# EAGLE library part CP2104 (library Public)
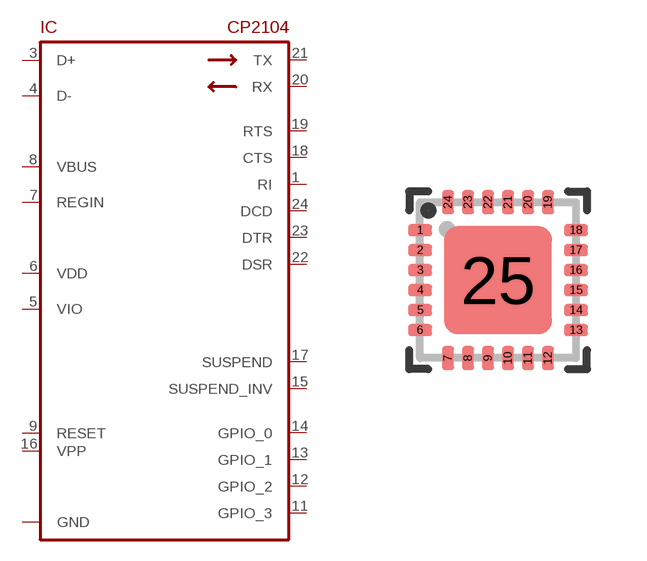
[diagram p97: symbol with the pads of QFN24-0.5; footprint QFN24-0.5]

Designator prefix IC

## CP2104  [QFN24-0.5]
1  RI
2  GND
3  D+
4  D-
5  VIO
6  VDD
7  REGIN
8  VBUS
9  RESET
11  GPIO_3
12  GPIO_2
13  GPIO_1
14  GPIO_0
15  SUSPEND_INV
16  VPP
17  SUSPEND
18  CTS
19  RTS
20  RX
21  TX
22  DSR
23  DTR
24  DCD
25  GND

## Footprint QFN24-0.5 (pad centres in mm)
smd 0.6 x 0.3: 1 -1.95,1.25; 2 -1.95,0.75; 3 -1.95,0.25; 4 -1.95,-0.25; 5 -1.95,-0.75; 6 -1.95,-1.25; 13 1.95,-1.25; 14 1.95,-0.75; 15 1.95,-0.25; 16 1.95,0.25; 17 1.95,0.75; 18 1.95,1.25
smd 0.3 x 0.6: 7 -1.25,-1.95; 8 -0.75,-1.95; 9 -0.25,-1.95; 10 0.25,-1.95; 11 0.75,-1.95; 12 1.25,-1.95; 19 1.25,1.95; 20 0.75,1.95; 21 0.25,1.95; 22 -0.25,1.95; 23 -0.75,1.95; 24 -1.25,1.95
smd 2.7 x 2.7: 25 0,0